# EAGLE library part ATTINY24 (library PAS)
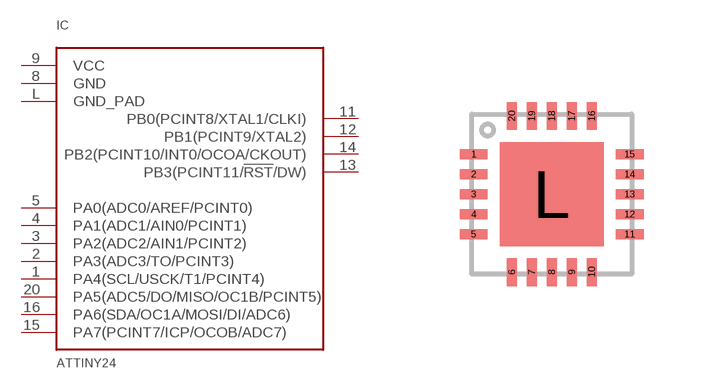
[diagram p3: symbol with the pads of QFN-20; footprint QFN-20]

Designator prefix IC

## ATTINY24  [QFN-20]
1  PA4(SCL/USCK/T1/PCINT4)  pas
2  PA3(ADC3/TO/PCINT3)  pas
3  PA2(ADC2/AIN1/PCINT2)  pas
4  PA1(ADC1/AIN0/PCINT1)  pas
5  PA0(ADC0/AREF/PCINT0)  pas
8  GND  pas
9  VCC  pas
11  PB0(PCINT8/XTAL1/CLKI)  pas
12  PB1(PCINT9/XTAL2)  pas
13  PB3(PCINT11/!RST!/DW)  pas
14  PB2(PCINT10/INT0/OCOA/CKOUT)  pas
15  PA7(PCINT7/ICP/OCOB/ADC7)  pas
16  PA6(SDA/OC1A/MOSI/DI/ADC6)  pas
20  PA5(ADC5/DO/MISO/OC1B/PCINT5)  pas
L  GND_PAD  pas

## Footprint QFN-20 (pad centres in mm)
QFN-20 Quad Flat No Lead package, 20 pins plus ground pad. +.3mm pad length beyond outside of the package. Designed using guidelines from linear Technologies.
smd 0.7 x 0.25: 1 -1.95,1; 2 -1.95,0.5; 3 -1.95,0; 4 -1.95,-0.5; 5 -1.95,-1; 11 1.95,-1; 12 1.95,-0.5; 13 1.95,0; 14 1.95,0.5; 15 1.95,1
smd 0.25 x 0.7: 6 -1,-1.95; 7 -0.5,-1.95; 8 0,-1.95; 9 0.5,-1.95; 10 1,-1.95; 16 1,1.95; 17 0.5,1.95; 18 0,1.95; 19 -0.5,1.95; 20 -1,1.95
smd 2.6 x 2.6: L 0,0